# Altium footprint library WR-TBL_Spring Clamp_3.50mm.PcbLib: 77 footprints (part 2 of 5)
Each footprint in its own frame and in the unit in brackets; x right, y up, seen from the top. Pads: shape width x height; smd on the part's side, far side on the other; paste and mask are expansions set on the pad; w line width, h text height; cw(c..) or ccw(c..) is an arc to the next point about the centre after c.
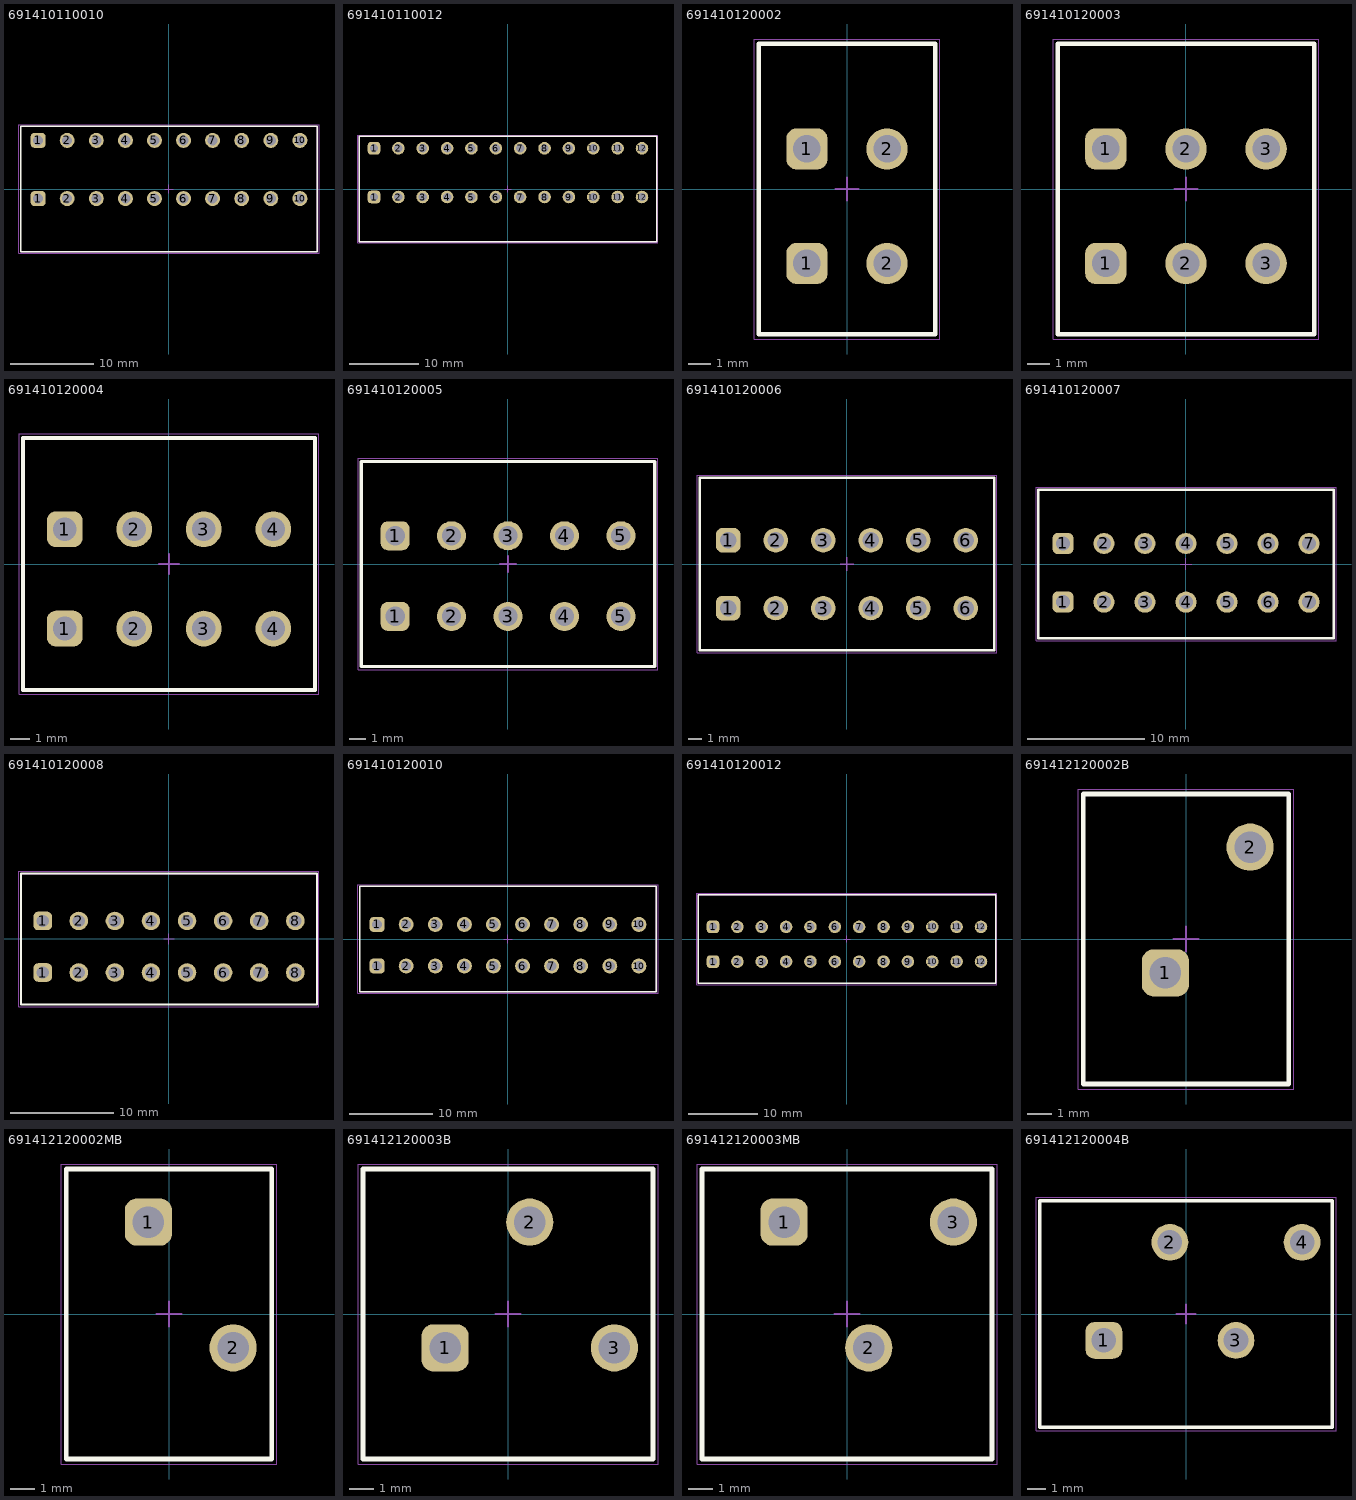
[diagram p1: the footprints below, top view; thin cyan lines are the x and y axes]

## 691410110010 [mm] "Terminal Block, Black, Screwless Horizontal, pitch 3.5mm, 10p"
height 8.5
pads (20):
  rrect50% 1.8x1.8 hole 1.2: 1(-15.75,-1.15) 1(-15.75,5.85)
  round 1.8 hole 1.2: 2(-12.25,-1.15) 2(-12.25,5.85) 3(-8.75,-1.15) 3(-8.75,5.85) 4(-5.25,-1.15) 4(-5.25,5.85) 5(-1.75,-1.15) 5(-1.75,5.85) 6(1.75,-1.15) 6(1.75,5.85) 7(5.25,-1.15) 7(5.25,5.85) 8(8.75,-1.15) 8(8.75,5.85) 9(12.25,-1.15) 9(12.25,5.85) 10(15.75,-1.15) 10(15.75,5.85)
Top Overlay:
  lines w0.2: -17.85,-7.55 -17.85,7.55 17.85,7.55 17.85,-7.55 -17.85,-7.55
Top Assembly:
  lines w0.1: -17.85,-7.55 17.85,-7.55 17.85,7.55 -17.85,7.55 -17.85,-7.55
Top Designator:
  text ".Designator" at -3.647,-0.357 h1
Top 3D Body:
  lines w0.1: -17.85,-7.55 17.85,-7.55 17.85,7.55 -17.85,7.55 -17.85,-7.55
Top Courtyard:
  lines w0.05: -18.05,-7.75 -18.05,7.75 18.05,7.75 18.05,-7.75 -18.05,-7.75
Top Component Center:
  lines w0.1: -0.5,0 0.5,0 ; 0,-0.5 0,0.5
3D body "691410110010.stp": height 8.58, standoff -3.42, extent -17.85,-7.55 17.85,7.55

## 691410110012 [mm] "Terminal Block, Black, Screwless Horizontal, pitch 3.5mm, 12p"
height 8.5
pads (24):
  rrect50% 1.8x1.8 hole 1.2: 1(-19.25,-1.15) 1(-19.25,5.85)
  round 1.8 hole 1.2: 2(-15.75,-1.15) 2(-15.75,5.85) 3(-12.25,-1.15) 3(-12.25,5.85) 4(-8.75,-1.15) 4(-8.75,5.85) 5(-5.25,-1.15) 5(-5.25,5.85) 6(-1.75,-1.15) 6(-1.75,5.85) 7(1.75,-1.15) 7(1.75,5.85) 8(5.25,-1.15) 8(5.25,5.85) 9(8.75,-1.15) 9(8.75,5.85) 10(12.25,-1.15) 10(12.25,5.85) 11(15.75,-1.15) 11(15.75,5.85) 12(19.25,-1.15) 12(19.25,5.85)
Top Overlay:
  lines w0.2: -21.35,-7.55 -21.35,7.55 21.35,7.55 21.35,-7.55 -21.35,-7.55
Top Assembly:
  lines w0.1: -21.35,-7.55 21.35,-7.55 21.35,7.55 -21.35,7.55 -21.35,-7.55
Top Designator:
  text ".Designator" at -3.647,-0.357 h1
Top 3D Body:
  lines w0.1: -21.35,-7.55 21.35,-7.55 21.35,7.55 -21.35,7.55 -21.35,-7.55
Top Courtyard:
  lines w0.05: -21.55,-7.75 -21.55,7.75 21.55,7.75 21.55,-7.75 -21.55,-7.75
Top Component Center:
  lines w0.1: -0.5,0 0.5,0 ; 0,-0.5 0,0.5
3D body "691410110012.stp": height 8.58, standoff -3.42, extent -21.35,-7.55 21.35,7.55

## 691410120002 [mm] "Terminal Block, Black, Screwless 45deg, pitch 3.5mm, 2p"
height 14.2
pads (4):
  rrect50% 1.8x1.8 hole 1.2: 1(-1.75,-3.25) 1(-1.75,1.75)
  round 1.8 hole 1.2: 2(1.75,-3.25) 2(1.75,1.75)
Top Overlay:
  lines w0.2: -3.85,-6.35 -3.85,6.35 3.85,6.35 3.85,-6.35 -3.85,-6.35
Top Assembly:
  lines w0.1: -3.85,-6.35 3.85,-6.35 3.85,6.35 -3.85,6.35 -3.85,-6.35
Top Designator:
  text ".Designator" at -3.647,-0.357 h1
Top 3D Body:
  lines w0.1: -3.85,-6.35 3.85,-6.35 3.85,6.35 -3.85,6.35 -3.85,-6.35
Top Courtyard:
  lines w0.05: -4.05,-6.55 -4.05,6.55 4.05,6.55 4.05,-6.55 -4.05,-6.55
Top Component Center:
  lines w0.1: -0.5,0 0.5,0 ; 0,-0.5 0,0.5
3D body "691410120002.stp": height 14.25, standoff -3.43, extent -3.85,-6.497 3.85,6.35

## 691410120003 [mm] "Terminal Block, Black, Screwless 45deg, pitch 3.5mm, 3p"
height 14.2
pads (6):
  rrect50% 1.8x1.8 hole 1.2: 1(-3.5,-3.25) 1(-3.5,1.75)
  round 1.8 hole 1.2: 2(0,-3.25) 2(0,1.75) 3(3.5,-3.25) 3(3.5,1.75)
Top Overlay:
  lines w0.2: -5.6,-6.35 -5.6,6.35 5.6,6.35 5.6,-6.35 -5.6,-6.35
Top Assembly:
  lines w0.1: -5.6,-6.35 5.6,-6.35 5.6,6.35 -5.6,6.35 -5.6,-6.35
Top Designator:
  text ".Designator" at -3.647,-0.357 h1
Top 3D Body:
  lines w0.1: -5.6,-6.35 5.6,-6.35 5.6,6.35 -5.6,6.35 -5.6,-6.35
Top Courtyard:
  lines w0.05: -5.8,-6.55 -5.8,6.55 5.8,6.55 5.8,-6.55 -5.8,-6.55
Top Component Center:
  lines w0.1: -0.5,0 0.5,0 ; 0,-0.5 0,0.5
3D body "691410120003.stp": height 14.26, standoff -3.42, extent -5.6,-6.497 5.6,6.35

## 691410120004 [mm] "Terminal Block, Black, Screwless 45deg, pitch 3.5mm, 4p"
height 14.2
pads (8):
  rrect50% 1.8x1.8 hole 1.2: 1(-5.25,-3.25) 1(-5.25,1.75)
  round 1.8 hole 1.2: 2(-1.75,-3.25) 2(-1.75,1.75) 3(1.75,-3.25) 3(1.75,1.75) 4(5.25,-3.25) 4(5.25,1.75)
Top Overlay:
  lines w0.2: -7.35,-6.35 -7.35,6.35 7.35,6.35 7.35,-6.35 -7.35,-6.35
Top Assembly:
  lines w0.1: -7.35,-6.35 7.35,-6.35 7.35,6.35 -7.35,6.35 -7.35,-6.35
Top Designator:
  text ".Designator" at -3.647,-0.357 h1
Top 3D Body:
  lines w0.1: -7.35,-6.35 -7.35,6.35 7.35,6.35 7.35,-6.35 -7.35,-6.35
Top Courtyard:
  lines w0.05: -7.55,-6.55 -7.55,6.55 7.55,6.55 7.55,-6.55 -7.55,-6.55
Top Component Center:
  lines w0.1: -0.5,0 0.5,0 ; 0,-0.5 0,0.5
3D body "691410120004.stp": height 14.28, standoff -3.4, extent -7.35,-6.497 7.35,6.35

## 691410120005 [mm] "Terminal Block, Black, Screwless 45deg, pitch 3.5mm, 5p"
height 14.2
pads (10):
  rrect50% 1.8x1.8 hole 1.2: 1(-7,-3.25) 1(-7,1.75)
  round 1.8 hole 1.2: 2(-3.5,-3.25) 2(-3.5,1.75) 3(0,-3.25) 3(0,1.75) 4(3.5,-3.25) 4(3.5,1.75) 5(7,-3.25) 5(7,1.75)
Top Overlay:
  lines w0.2: -9.1,-6.35 -9.1,6.35 9.1,6.35 9.1,-6.35 -9.1,-6.35
Top Assembly:
  lines w0.1: -9.1,-6.35 9.1,-6.35 9.1,6.35 -9.1,6.35 -9.1,-6.35
Top Designator:
  text ".Designator" at -3.647,-0.357 h1
Top 3D Body:
  lines w0.1: -9.1,-6.35 -9.1,6.35 9.1,6.35 9.1,-6.35 -9.1,-6.35
Top Courtyard:
  lines w0.05: -9.3,-6.55 -9.3,6.55 9.3,6.55 9.3,-6.55 -9.3,-6.55
Top Component Center:
  lines w0.1: -0.5,0 0.5,0 ; 0,-0.5 0,0.5
3D body "691410120005.stp": height 14.26, standoff -3.42, extent -9.1,-6.497 9.1,6.35

## 691410120006 [mm] "Terminal Block, Black, Screwless 45deg, pitch 3.5mm, 6p"
height 14.2
pads (12):
  rrect50% 1.8x1.8 hole 1.2: 1(-8.75,-3.25) 1(-8.75,1.75)
  round 1.8 hole 1.2: 2(-5.25,-3.25) 2(-5.25,1.75) 3(-1.75,-3.25) 3(-1.75,1.75) 4(1.75,-3.25) 4(1.75,1.75) 5(5.25,-3.25) 5(5.25,1.75) 6(8.75,-3.25) 6(8.75,1.75)
Top Overlay:
  lines w0.2: -10.85,-6.35 10.85,-6.35 10.85,6.35 -10.85,6.35 -10.85,-6.35
Top Assembly:
  lines w0.1: -10.85,-6.35 -10.85,6.35 10.85,6.35 10.85,-6.35 -10.85,-6.35
Top Designator:
  text ".Designator" at -3.647,-0.357 h1
Top 3D Body:
  lines w0.1: -10.85,-6.35 10.85,-6.35 10.85,6.35 -10.85,6.35 -10.85,-6.35
Top Courtyard:
  lines w0.05: -11.05,-6.55 11.05,-6.55 11.05,6.55 -11.05,6.55 -11.05,-6.55
Top Component Center:
  lines w0.1: -0.5,0 0.5,0 ; 0,-0.5 0,0.5
3D body "691410120006.stp": height 14.31, standoff -3.37, extent -10.85,-6.497 10.85,6.35

## 691410120007 [mm] "Terminal Block, Black, Screwless 45deg, pitch 3.5mm, 7p"
height 14.2
pads (14):
  rrect50% 1.8x1.8 hole 1.2: 1(-10.5,-3.25) 1(-10.5,1.75)
  round 1.8 hole 1.2: 2(-7,-3.25) 2(-7,1.75) 3(-3.5,-3.25) 3(-3.5,1.75) 4(0,-3.25) 4(0,1.75) 5(3.5,-3.25) 5(3.5,1.75) 6(7,-3.25) 6(7,1.75) 7(10.5,-3.25) 7(10.5,1.75)
Top Overlay:
  lines w0.2: -12.6,-6.35 12.6,-6.35 12.6,6.35 -12.6,6.35 -12.6,-6.35
Top Assembly:
  lines w0.1: -12.6,-6.35 -12.6,6.35 12.6,6.35 12.6,-6.35 -12.6,-6.35
Top Designator:
  text ".Designator" at -3.647,-0.357 h1
Top 3D Body:
  lines w0.1: -12.6,-6.35 12.6,-6.35 12.6,6.35 -12.6,6.35 -12.6,-6.35
Top Courtyard:
  lines w0.05: -12.8,-6.55 12.8,-6.55 12.8,6.55 -12.8,6.55 -12.8,-6.55
Top Component Center:
  lines w0.1: -0.5,0 0.5,0 ; 0,-0.5 0,0.5
3D body "691410120007.stp": height 14.26, standoff -3.41, extent -12.6,-6.497 12.6,6.35

## 691410120008 [mm] "Terminal Block, Black, Screwless 45deg, pitch 3.5mm, 8p"
height 14.2
pads (16):
  rrect50% 1.8x1.8 hole 1.2: 1(-12.25,-3.25) 1(-12.25,1.75)
  round 1.8 hole 1.2: 2(-8.75,-3.25) 2(-8.75,1.75) 3(-5.25,-3.25) 3(-5.25,1.75) 4(-1.75,-3.25) 4(-1.75,1.75) 5(1.75,-3.25) 5(1.75,1.75) 6(5.25,-3.25) 6(5.25,1.75) 7(8.75,-3.25) 7(8.75,1.75) 8(12.25,-3.25) 8(12.25,1.75)
Top Overlay:
  lines w0.2: -14.35,-6.35 -14.35,6.35 14.35,6.35 14.35,-6.35 -14.35,-6.35
Top Assembly:
  lines w0.1: -14.35,-6.35 14.35,-6.35 14.35,6.35 -14.35,6.35 -14.35,-6.35
Top Designator:
  text ".Designator" at -3.647,-0.357 h1
Top 3D Body:
  lines w0.1: -14.35,-6.35 -14.35,6.35 14.35,6.35 14.35,-6.35 -14.35,-6.35
Top Courtyard:
  lines w0.05: -14.55,-6.55 -14.55,6.55 14.55,6.55 14.55,-6.55 -14.55,-6.55
Top Component Center:
  lines w0.1: -0.5,0 0.5,0 ; 0,-0.5 0,0.5
3D body "691410120008.stp": height 14.27, standoff -3.41, extent -14.35,-6.497 14.35,6.35

## 691410120010 [mm] "Terminal Block, Black, Screwless 45deg, pitch 3.5mm, 10p"
height 14.2
pads (20):
  rrect50% 1.8x1.8 hole 1.2: 1(-15.75,-3.25) 1(-15.75,1.75)
  round 1.8 hole 1.2: 2(-12.25,-3.25) 2(-12.25,1.75) 3(-8.75,-3.25) 3(-8.75,1.75) 4(-5.25,-3.25) 4(-5.25,1.75) 5(-1.75,-3.25) 5(-1.75,1.75) 6(1.75,-3.25) 6(1.75,1.75) 7(5.25,-3.25) 7(5.25,1.75) 8(8.75,-3.25) 8(8.75,1.75) 9(12.25,-3.25) 9(12.25,1.75) 10(15.75,-3.25) 10(15.75,1.75)
Top Overlay:
  lines w0.2: -17.85,-6.35 17.85,-6.35 17.85,6.35 -17.85,6.35 -17.85,-6.35
Top Assembly:
  lines w0.1: -17.85,-6.35 -17.85,6.35 17.85,6.35 17.85,-6.35 -17.85,-6.35
Top Designator:
  text ".Designator" at -3.647,-0.357 h1
Top 3D Body:
  lines w0.1: -17.85,-6.35 17.85,-6.35 17.85,6.35 -17.85,6.35 -17.85,-6.35
Top Courtyard:
  lines w0.05: -18.05,-6.55 18.05,-6.55 18.05,6.55 -18.05,6.55 -18.05,-6.55
Top Component Center:
  lines w0.1: -0.5,0 0.5,0 ; 0,-0.5 0,0.5
3D body "691410120010.stp": height 14.37, standoff -3.31, extent -17.85,-6.497 17.85,6.35

## 691410120012 [mm] "Terminal Block, Black, Screwless 45deg, pitch 3.5mm, 12p"
height 14.2
pads (24):
  rrect50% 1.8x1.8 hole 1.2: 1(-19.25,-3.25) 1(-19.25,1.75)
  round 1.8 hole 1.2: 2(-15.75,-3.25) 2(-15.75,1.75) 3(-12.25,-3.25) 3(-12.25,1.75) 4(-8.75,-3.25) 4(-8.75,1.75) 5(-5.25,-3.25) 5(-5.25,1.75) 6(-1.75,-3.25) 6(-1.75,1.75) 7(1.75,-3.25) 7(1.75,1.75) 8(5.25,-3.25) 8(5.25,1.75) 9(8.75,-3.25) 9(8.75,1.75) 10(12.25,-3.25) 10(12.25,1.75) 11(15.75,-3.25) 11(15.75,1.75) 12(19.25,-3.25) 12(19.25,1.75)
Top Overlay:
  lines w0.2: -21.35,-6.35 21.35,-6.35 21.35,6.35 -21.35,6.35 -21.35,-6.35
Top Assembly:
  lines w0.1: -21.35,-6.35 -21.35,6.35 21.35,6.35 21.35,-6.35 -21.35,-6.35
Top Designator:
  text ".Designator" at -3.647,-0.357 h1
Top 3D Body:
  lines w0.1: -21.35,-6.35 21.35,-6.35 21.35,6.35 -21.35,6.35 -21.35,-6.35
Top Courtyard:
  lines w0.05: -21.55,-6.55 21.55,-6.55 21.55,6.55 -21.55,6.55 -21.55,-6.55
Top Component Center:
  lines w0.1: -0.5,0 0.5,0 ; 0,-0.5 0,0.5
3D body "691410120012.stp": height 14.31, standoff -3.37, extent -21.35,-6.497 21.35,6.35

## 691412120002B [mm] "3,5mm - Spring clamp/Screw less - 45¡ã entry - 02p"
height 12.8
pads (2):
  rrect50% 1.95x1.95 hole 1.3: 1(-0.85,-1.4)
  round 1.95 hole 1.3: 2(2.65,3.8)
Top Overlay:
  lines w0.2: -4.25,-6 -4.25,6 4.25,6 4.25,-6 -4.25,-6
Top Assembly:
  lines w0.1: -4.25,-6 4.25,-6 4.25,6 -4.25,6 -4.25,-6
Top Designator:
  text ".Designator" at -3.647,-0.357 h1
Top 3D Body:
  lines w0.1: -4.25,-6 -4.25,6 4.25,6 4.25,-6 -4.25,-6
Top Courtyard:
  lines w0.05: -4.45,-6.2 -4.45,6.2 4.45,6.2 4.45,-6.2 -4.45,-6.2
Top Component Center:
  lines w0.1: -0.5,0 0.5,0 ; 0,-0.5 0,0.5
3D body "691412120002B.stp": height 12.85, standoff -3.45, extent -4.25,-6 4.25,6

## 691412120002MB [mm] "3,5mm - Spring clamp/Screw less - 45¡ã entry - 02p"
height 11.5
pads (2):
  rrect50% 1.95x1.95 hole 1.3: 1(-0.85,3.8)
  round 1.95 hole 1.3: 2(2.65,-1.4)
Top Overlay:
  lines w0.2: -4.25,-6 4.25,-6 4.25,6 -4.25,6 -4.25,-6
Top Assembly:
  lines w0.1: -4.25,-6 -4.25,6 4.25,6 4.25,-6 -4.25,-6
Top Designator:
  text ".Designator" at -3.647,-0.357 h1
Top 3D Body:
  lines w0.1: -4.25,-6 4.25,-6 4.25,6 -4.25,6 -4.25,-6
Top Courtyard:
  lines w0.05: -4.45,-6.2 -4.45,6.2 4.45,6.2 4.45,-6.2 -4.45,-6.2
Top Component Center:
  lines w0.1: -0.5,0 0.5,0 ; 0,-0.5 0,0.5
3D body "691412120002MB.stp": height 12.85, standoff -3.45, extent -4.25,-6 4.25,6

## 691412120003B [mm] "3,5mm - Spring clamp/Screw less - 45¡ã entry - 03p"
height 12.8
pads (3):
  rrect50% 1.95x1.95 hole 1.3: 1(-2.6,-1.4)
  round 1.95 hole 1.3: 2(0.9,3.8) 3(4.4,-1.4)
Top Overlay:
  lines w0.2: -6,-6 6,-6 6,6 -6,6 -6,-6
Top Assembly:
  lines w0.1: -6,-6 -6,6 6,6 6,-6 -6,-6
Top Designator:
  text ".Designator" at -3.647,-0.357 h1
Top 3D Body:
  lines w0.1: -6,-6 6,-6 6,6 -6,6 -6,-6
Top Courtyard:
  lines w0.05: -6.2,-6.2 6.2,-6.2 6.2,6.2 -6.2,6.2 -6.2,-6.2
Top Component Center:
  lines w0.1: -0.5,0 0.5,0 ; 0,-0.5 0,0.5
3D body "691412120003B.stp": height 12.85, standoff -3.45, extent -6,-6 6,6

## 691412120003MB [mm] "3,5mm - Spring clamp/Screw less - 45¡ã entry - 03p"
height 11.5
pads (3):
  rrect50% 1.95x1.95 hole 1.3: 1(-2.6,3.8)
  round 1.95 hole 1.3: 2(0.9,-1.4) 3(4.4,3.8)
Top Overlay:
  lines w0.2: -6,-6 -6,6 6,6 6,-6 -6,-6
Top Assembly:
  lines w0.1: -6,-6 6,-6 6,6 -6,6 -6,-6
Top Designator:
  text ".Designator" at -3.647,-0.357 h1
Top 3D Body:
  lines w0.1: -6,-6 -6,6 6,6 6,-6 -6,-6
Top Courtyard:
  lines w0.05: -6.2,-6.2 6.2,-6.2 6.2,6.2 -6.2,6.2 -6.2,-6.2
Top Component Center:
  lines w0.1: -0.5,0 0.5,0 ; 0,-0.5 0,0.5
3D body "691412120003MB.stp": height 12.85, standoff -3.45, extent -6,-6 6,6

## 691412120004B [mm] "3,5mm - Spring clamp/Screw less - 45¡ã entry - 04p"
height 12.8
pads (4):
  rrect50% 1.95x1.95 hole 1.3: 1(-4.35,-1.4)
  round 1.95 hole 1.3: 2(-0.85,3.8) 3(2.65,-1.4) 4(6.15,3.8)
Top Overlay:
  lines w0.2: -7.75,-6 7.75,-6 7.75,6 -7.75,6 -7.75,-6
Top Assembly:
  lines w0.1: -7.75,-6 -7.75,6 7.75,6 7.75,-6 -7.75,-6
Top Designator:
  text ".Designator" at -3.647,-0.357 h1
Top 3D Body:
  lines w0.1: -7.75,-6 7.75,-6 7.75,6 -7.75,6 -7.75,-6
Top Courtyard:
  lines w0.05: -7.95,-6.2 7.95,-6.2 7.95,6.2 -7.95,6.2 -7.95,-6.2
Top Component Center:
  lines w0.1: -0.5,0 0.5,0 ; 0,-0.5 0,0.5
3D body "691412120004B.stp": height 12.85, standoff -3.45, extent -7.75,-6 7.75,6